# EAGLE library part LORA (library 1Nico)
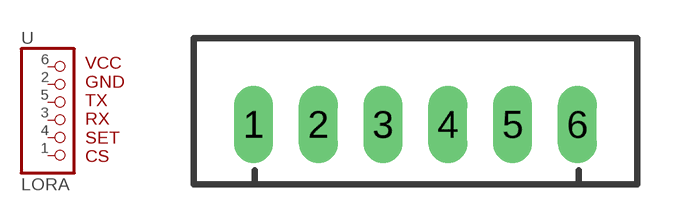
[diagram p2: symbol with the pads of JST-XH-06-PACKAGE-LONG-PAD; footprint JST-XH-06-PACKAGE-LONG-PAD]

Designator prefix -

## LORA  [JST-XH-06-PACKAGE-LONG-PAD]
1  CS  pas
2  GND  pas
3  RX  pas
4  SET  pas
5  TX  pas
6  VCC  pas

## Footprint JST-XH-06-PACKAGE-LONG-PAD (pad centres in mm)
JST XH Connector Long Pads (Package) Wire to board connector. Pitch: 2,54 mm, (0.100") Number of pins: 6 Created by Rembrandt Electronics www.rembrandtelectronics.com
drill 1.016 long: 1 -6.35,0; 2 -3.81,0; 3 -1.27,0; 4 1.27,0; 5 3.81,0; 6 6.35,0